# Altium footprint library WANGYU92100PcbLib.PcbLib: 392 footprints (part 23 of 25)
Each footprint in its own frame and in the unit in brackets; x right, y up, seen from the top. Pads: shape width x height; smd on the part's side, far side on the other; paste and mask are expansions set on the pad; w line width, h text height; cw(c..) or ccw(c..) is an arc to the next point about the centre after c.
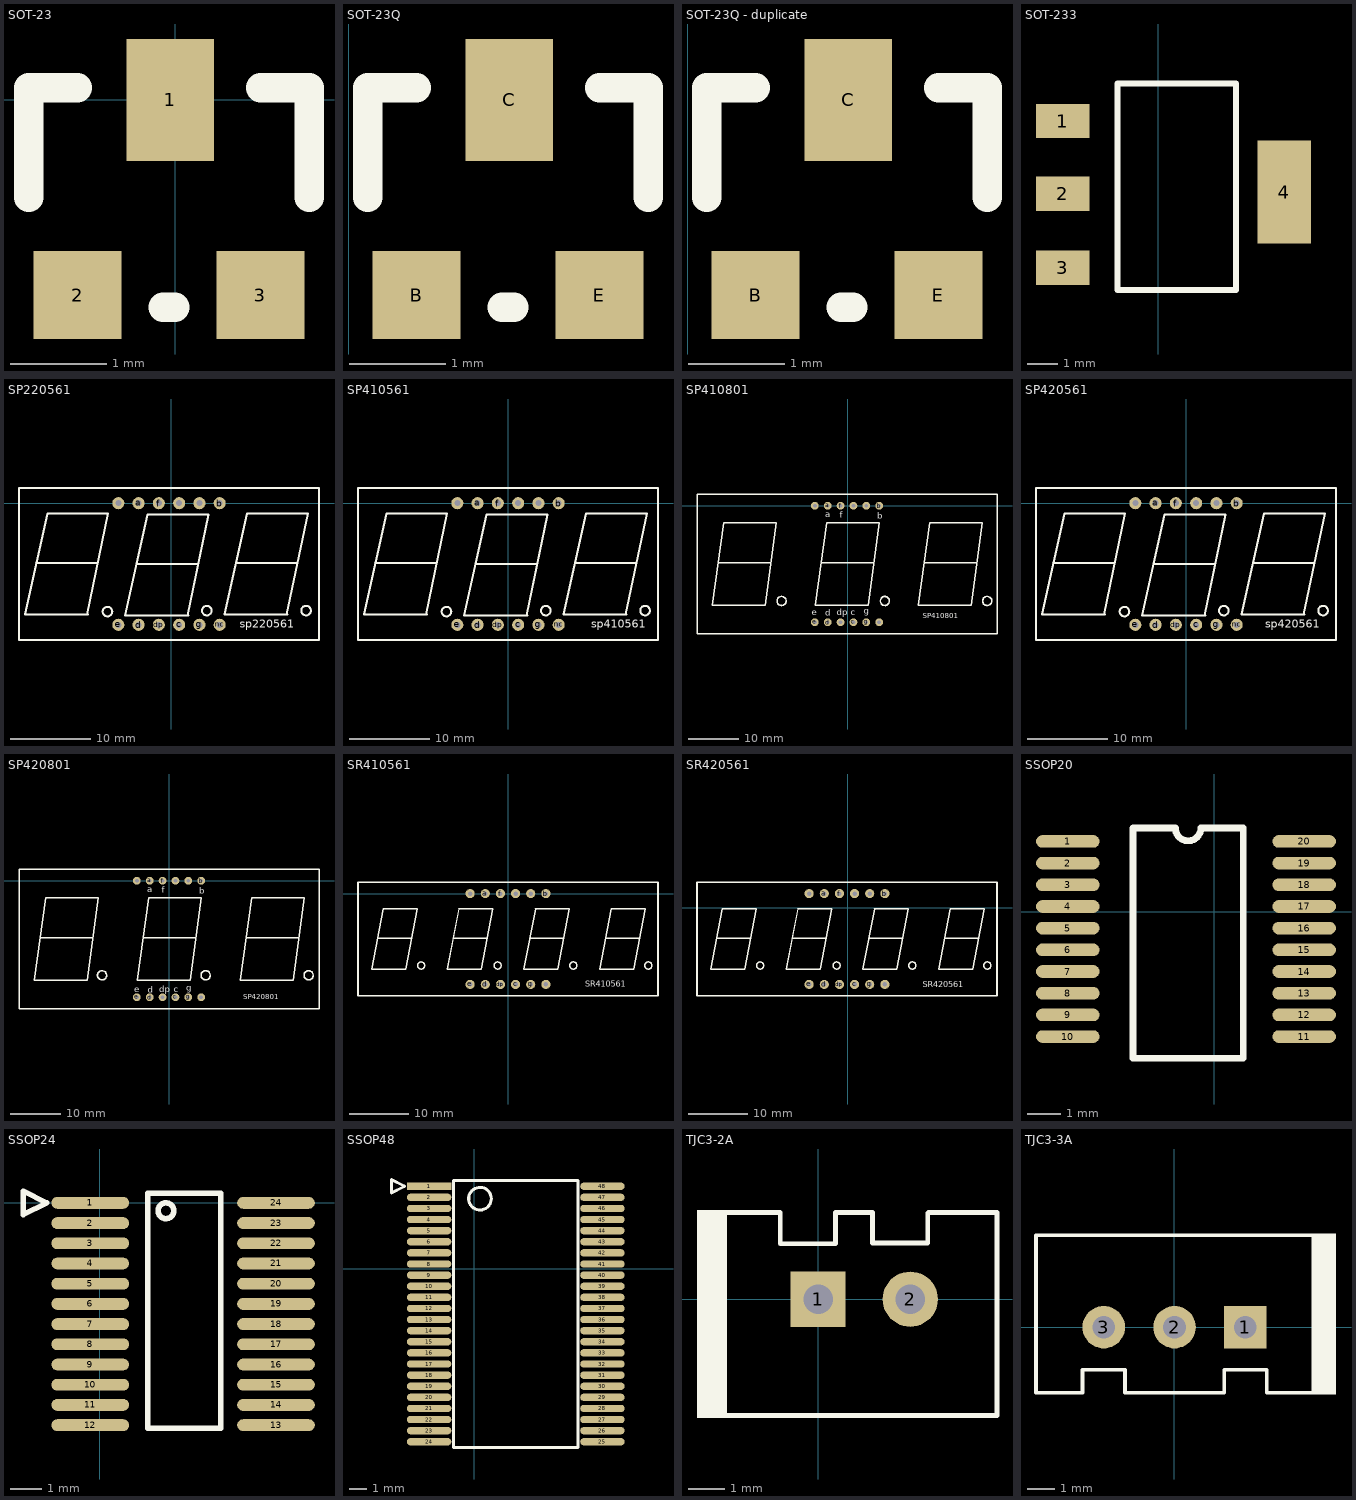
[diagram p22: the footprints below, top view; thin cyan lines are the x and y axes]

## SOT-23 [mil] "123 管脚"
pads (3):
  rect 36x50 smd: 1(-2,0)
  rect 36x36 smd: 2(-40,-80) 3(35,-80)
Top Overlay:
  lines w12: -60,-40 -60,5 -40,5 ; -5,-85 0,-85 ; 35,5 55,5 55,-40

## SOT-23Q [mil]
pads (3):
  rect 36x36 smd: B(27.75,-120.28) E(102.75,-120.28)
  rect 36x50 smd: C(65.75,-40.28)
Top Overlay:
  lines w12: 7.75,-80.28 7.75,-35.28 27.75,-35.28 ; 62.76,-125.28 67.75,-125.28 ; 102.75,-35.28 122.75,-35.28 122.75,-80.28

## SOT-23Q - duplicate [mil]
pads (3):
  rect 36x36 smd: B(27.75,-120.28) E(102.75,-120.28)
  rect 36x50 smd: C(65.75,-40.28)
Top Overlay:
  lines w12: 7.75,-80.28 7.75,-35.28 27.75,-35.28 ; 62.76,-125.28 67.75,-125.28 ; 102.75,-35.28 122.75,-35.28 122.75,-80.28

## SOT-233 [mil]
pads (4):
  rect 70x45 smd: 1(-125,715) 2(-125,619.96) 3(-125,523)
  rect 70x135 smd: 4(165.35,622.05)
Top Overlay:
  lines w8: -53.35,493.98 101.65,493.98 101.65,763.98 -53.35,763.98 -53.35,493.98

## SP220561 [mil]
pads (12):
  round 60 hole 30: a(-160,0) b(240,0) c(40,-600) com1(-260,0) com2(40,0) com3(140,0) d(-160,-600) dp(-60,-600) e(-260,-600) f(-60,0) g(140,-600) nc(240,-600)
Top Overlay:
  circle w10: c666.38,-530 r23.62
  circle w10: c176.38,-530 r23.62
  circle w10: c-313.62,-535 r23.62
  lines w10: -721.34,-550 -610,-50 -310,-50 -414.38,-550 ; -718.66,-550 -410,-550 ; -665,-295 -365,-295 ; -226.34,-555 -115,-55 185,-55 80.62,-555 ; -223.66,-555 85,-555 ; -170,-300 130,-300 ; 263.66,-550 375,-50 675,-50 570.62,-550 ; 266.34,-550 575,-550 ; 320,-295 620,-295 ; -750.16,-674.02 -750.16,74.02 730.16,74.02 730.16,-674.02 -750.16,-674.02
  text "sp220561" at 340,-615 h39.37

## SP410561 [mil]
pads (12):
  round 60 hole 30: a(-150,0) b(250,0) c(50,-600) com1(-250,0) com2(50,0) com3(150,0) d(-150,-600) dp(-50,-600) e(-250,-600) f(-50,0) g(150,-600) nc(250,-600)
Top Overlay:
  circle w10: c676.38,-530 r23.62
  circle w10: c186.38,-530 r23.62
  circle w10: c-303.62,-535 r23.62
  lines w10: -711.34,-550 -600,-50 -300,-50 -404.38,-550 ; -708.66,-550 -400,-550 ; -655,-295 -355,-295 ; -216.34,-555 -105,-55 195,-55 90.62,-555 ; -213.66,-555 95,-555 ; -160,-300 140,-300 ; 273.66,-550 385,-50 685,-50 580.62,-550 ; 276.34,-550 585,-550 ; 330,-295 630,-295 ; -740.16,-674.02 -740.16,74.02 740.16,74.02 740.16,-674.02 -740.16,-674.02
  text "sp410561" at 410,-615 h39.37

## SP410801 [mil]
pads (12):
  round 60 hole 30: a(-155,0) b(245,0) c(45,-905.51) com1(-255,0) com2(45,0) com3(145,0) d(-155,-905.51) dp(-55,-905.51) e(-255,-905.51) f(-55,0) g(145,-905.51) nc(245,-905.51)
Top Overlay:
  circle w10: c-513.08,-740 r35.43
  circle w10: c289.57,-740 r35.43
  circle w10: c1084.57,-740 r35.43
  lines w8: -1007.2,-439.37 -1003.26,-443.31 ; -597.75,-443.31 -593.81,-439.37 ; -207.2,-439.37 -203.26,-443.31 ; 202.25,-443.31 206.19,-439.37 ; 592.8,-439.37 596.74,-443.31 ; 1002.25,-443.31 1006.19,-439.37
  lines w10: -1003.26,-443.31 -597.75,-443.31 ; -203.26,-443.31 202.25,-443.31 ; 596.74,-443.31 1002.25,-443.31 ; -1170.35,-994.1 -1170.35,88.58 1160.35,88.58 1160.35,-994.1 -1170.35,-994.1 ; -1050.5,-774.02 -641.05,-774.02 -554.44,-132.28 -963.89,-132.28 -1050.5,-774.02 ; -250.5,-774.02 158.94,-774.02 245.56,-132.28 -163.89,-132.28 -250.5,-774.02 ; 549.5,-774.02 958.95,-774.02 1045.56,-132.28 636.11,-132.28 549.5,-774.02
  text "a" at -175,-90 h47.24
  text "f" at -60,-95 h47.24
  text "b" at 230,-100 h47.24
  text "SP410801" at 585,-875 h40
  text "g" at 125,-840 h47.24
  text "c" at 25,-850 h47.24
  text "dp" at -85,-850 h47.24
  text "d" at -175,-855 h47.24
  text "e" at -280,-850 h47.24

## SP420561 [mil]
pads (12):
  round 60 hole 30: a(-150,0) b(250,0) c(50,-600) com1(-250,0) com2(50,0) com3(150,0) d(-150,-600) dp(-50,-600) e(-250,-600) f(-50,0) g(150,-600) nc(250,-600)
Top Overlay:
  circle w10: c676.38,-530 r23.62
  circle w10: c186.38,-530 r23.62
  circle w10: c-303.62,-535 r23.62
  lines w10: -711.34,-550 -600,-50 -300,-50 -404.38,-550 ; -708.66,-550 -400,-550 ; -655,-295 -355,-295 ; -216.34,-555 -105,-55 195,-55 90.62,-555 ; -213.66,-555 95,-555 ; -160,-300 140,-300 ; 273.66,-550 385,-50 685,-50 580.62,-550 ; 276.34,-550 585,-550 ; 330,-295 630,-295 ; -740.16,-674.02 -740.16,74.02 740.16,74.02 740.16,-674.02 -740.16,-674.02
  text "sp420561" at 390,-615 h39.76

## SP420801 [mil]
pads (12):
  round 60 hole 30: a(-150,0) b(250,0) c(50,-905.51) com1(-250,0) com2(50,0) com3(150,0) d(-150,-905.51) dp(-50,-905.51) e(-250,-905.51) f(-50,0) g(150,-905.51) nc(250,-905.51)
Top Overlay:
  circle w10: c-520.43,-735 r35.43
  circle w10: c284.57,-735 r35.43
  circle w10: c1084.57,-735 r35.43
  lines w8: -1002.2,-439.37 -998.26,-443.31 ; -592.75,-443.31 -588.81,-439.37 ; -202.2,-439.37 -198.26,-443.31 ; 207.25,-443.31 211.19,-439.37 ; 597.8,-439.37 601.74,-443.31 ; 1007.25,-443.31 1011.19,-439.37
  lines w10: -998.26,-443.31 -592.75,-443.31 ; -198.26,-443.31 207.25,-443.31 ; 601.74,-443.31 1007.25,-443.31 ; -1165.35,-994.1 1165.35,-994.1 1165.35,88.58 -1165.35,88.58 -1165.35,-994.1 ; -1045.5,-774.02 -958.89,-132.28 -549.44,-132.28 -636.05,-774.02 -1045.5,-774.02 ; -245.5,-774.02 -158.89,-132.28 250.56,-132.28 163.94,-774.02 -245.5,-774.02 ; 554.5,-774.02 641.11,-132.28 1050.56,-132.28 963.95,-774.02 554.5,-774.02
  text "SP420801" at 575,-920 h40
  text "e" at -270,-865 h47.24
  text "d" at -165,-870 h47.24
  text "dp" at -75,-865 h47.24
  text "c" at 35,-865 h47.24
  text "g" at 135,-855 h47.24
  text "b" at 235,-100 h47.24
  text "f" at -55,-95 h47.24
  text "a" at -170,-90 h47.24

## SR410561 [mil]
pads (12):
  round 60 hole 30: a(-150,0) b(250,0) c(50,-600) com1(-250,0) com2(50,0) com3(150,0) com4(250,-600) d(-150,-600) dp(-50,-600) e(-250,-600) f(-50,0) g(150,-600)
Top Overlay:
  circle w10: c-573.62,-475 r23.62
  circle w10: c-68.62,-475 r23.62
  circle w10: c431.38,-475 r23.62
  circle w10: c926.38,-475 r23.62
  lines w10: -854.33,-295 -640,-295 ; -358.27,-295 -140,-295 ; 145.67,-295 365,-295 ; 645.67,-295 865,-295 ; -990.16,-674.02 990.16,-674.02 990.16,74.02 -990.16,74.02 -990.16,-674.02 ; -900,-500 -823.46,-100 -600,-100 -676.54,-500 -900,-500 ; -400,-500 -323.45,-100 -100,-100 -176.54,-500 -400,-500 ; 105,-500 181.54,-100 405,-100 328.45,-500 105,-500 ; 605,-500 681.54,-100 905,-100 828.46,-500 605,-500
  text "SR410561" at 510,-615 h39.37

## SR420561 [mil]
pads (12):
  round 60 hole 30: a(-155,95) b(245,95) c(45,-505) com1(-255,95) com2(45,95) com3(145,95) com4(245,-505) d(-155,-505) dp(-55,-505) e(-255,-505) f(-55,95) g(145,-505)
Top Overlay:
  circle w10: c921.38,-380 r23.62
  circle w10: c426.38,-380 r23.62
  circle w10: c-73.62,-380 r23.62
  circle w10: c-578.62,-380 r23.62
  lines w10: -859.33,-200 -645,-200 ; -363.27,-200 -145,-200 ; 140.67,-200 360,-200 ; 640.67,-200 860,-200 ; -995.16,-579.02 -995.16,169.02 985.16,169.02 985.16,-579.02 -995.16,-579.02 ; -905,-405 -681.54,-405 -605,-5 -828.46,-5 -905,-405 ; -405,-405 -181.54,-405 -105,-5 -328.45,-5 -405,-405 ; 100,-405 323.45,-405 400,-5 176.54,-5 100,-405 ; 600,-405 823.46,-405 900,-5 676.54,-5 600,-405
  text "SR420561" at 495,-525 h39.37

## SSOP20 [mil]
pads (20):
  oval 75x14.96 smd: 1(-173,83) 2(-173,57.41) 3(-173,31.82) 4(-173,6.23) 5(-173,-19.36) 6(-173,-44.95) 7(-173,-70.54) 8(-173,-96.14) 9(-173,-121.72) 10(-173,-147.32) 11(106,-147.32) 12(106,-121.72) 13(106,-96.14) 14(106,-70.54) 15(106,-44.95) 16(106,-19.36) 17(106,6.23) 18(106,31.82) 19(106,57.41) 20(106,83)
Top Overlay:
  lines w8: -96,-172.99 34,-172.99 34,98.67 -16,98.67 cw(c-31,98.67) -46,98.67 -96,98.67 -96,-172.99

## SSOP24 [mm]
pads (24):
  oval 2.5x0.381 smd: 1(-0.3,0) 2(-0.3,-0.65) 3(-0.3,-1.3) 4(-0.3,-1.95) 5(-0.3,-2.6) 6(-0.3,-3.25) 7(-0.3,-3.9) 8(-0.3,-4.55) 9(-0.3,-5.2) 10(-0.3,-5.85) 11(-0.3,-6.5) 12(-0.3,-7.15) 13(5.675,-7.15) 14(5.675,-6.5) 15(5.675,-5.85) 16(5.675,-5.2) 17(5.675,-4.55) 18(5.675,-3.9) 19(5.675,-3.25) 20(5.675,-2.6) 21(5.675,-1.95) 22(5.675,-1.3) 23(5.675,-0.65) 24(5.675,0)
Top Overlay:
  circle w0.178: c2.134,-0.254 r0.254
  lines w0.178: -2.459,-0.381 -1.697,0 -2.459,0.381 -2.459,-0.381 ; 1.552,-7.245 3.898,-7.245 3.898,0.315 1.552,0.315 1.552,-7.245

## SSOP48 [mil]
pads (48):
  rect 100x16.54 smd: 1(-102,186)
  oval 100x16.54 smd: 2(-102,161) 3(-102,136) 4(-102,111) 5(-102,86) 6(-102,61) 7(-102,36) 8(-102,11) 9(-102,-14) 10(-102,-39) 11(-102,-64) 12(-102,-89) 13(-102,-114) 14(-102,-139) 15(-102,-164) 16(-102,-189) 17(-102,-214) 18(-102,-239) 19(-102,-264) 20(-102,-289) 21(-102,-314) 22(-102,-339) 23(-102,-364) 24(-102,-389) 25(288,-389) 26(288,-364) 27(288,-339) 28(288,-314) 29(288,-289) 30(288,-264) 31(288,-239) 32(288,-214) 33(288,-189) 34(288,-164) 35(288,-139) 36(288,-114) 37(288,-89) 38(288,-64) 39(288,-39) 40(288,-14) 41(288,11) 42(288,36) 43(288,61) 44(288,86) 45(288,111) 46(288,136) 47(288,161) 48(288,186)
Top Overlay:
  circle w7: c12.51,158 r25.5
  lines w7: -187,171 -187,201 -157,186 -187,171 ; -47,-401.5 233,-401.5 233,198.5 -47,198.5 -47,-401.5

## TJC3-2A [mil]
pads (2):
  rect 60x60 hole 32: 1(0,0)
  round 60 hole 32: 2(100,0)
Top Overlay:
  region: -98.84,96.5 -131.17,96.5 -131.17,-128.5 -98.84,-128.5
  lines w5: -105,-126 194,-126 194,94 119.48,94 ; -104,94 -87,94 -41,94 -41,60 19,60 19,94 59,94 59,61 119,61 119,93.52

## TJC3-3A [mil]
pads (3):
  rect 60x60 hole 32: 1(100.17,0)
  round 60 hole 32: 2(0.17,0) 3(-99.83,0)
Top Overlay:
  rectangle: 195.84,-95.1 228.17,132.4
  lines w5: -195.5,-92.52 -129.83,-92.52 -129.83,-60 -69.83,-60 -69.83,-92.52 70.17,-92.52 70.17,-60 130.17,-60 130.17,-92.52 195.84,-92.52 195.84,129.92 -195.5,129.92 -195.5,-92.52